# Altium schematic symbol library LB1847.SchLib: 1 symbol
Pins are listed as number, name and electrical type; pins without a type are passive.

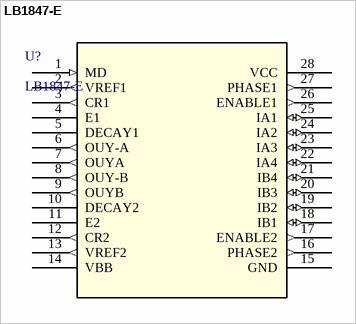
[diagram p0: symbol LB1847-E]

## LB1847-E
designator U?
Motor Stepper Driver  4bit Current Resolution; Vendor: ON Semiconductor; SourceLibrary: ONSemi_2017-12-12_1; Manufacturer_Part_Number: LB1847-E; Copyright: Copyright (C) 2016 Accelerated Designs. All rights reserved; RefDes: RefDes; Type: DEV
footprint DIP28H
pins: 1 MD (in), 2 VREF1 (out), 3 CR1 (out), 4 E1, 5 DECAY1, 6 OUY-A (out), 7 OUYA (out), 8 OUY-B (out), 9 OUYB (out), 10 DECAY2, 11 E2, 12 CR2 (out), 13 VREF2 (out), 14 VBB (power), 15 GND (power), 16 PHASE2 (out), 17 ENABLE2 (out), 18 IB1 (io), 19 IB2 (io), 20 IB3 (io), 21 IB4 (io), 22 IA4 (io), 23 IA3 (io), 24 IA2 (io), 25 IA1 (io), 26 ENABLE1 (out), 27 PHASE1 (out), 28 VCC (power)